# Altium footprint library 曾宪阳PCB库.PcbLib: 142 footprints (part 1 of 9)
Each footprint in its own frame and in the unit in brackets; x right, y up, seen from the top. Pads: shape width x height; smd on the part's side, far side on the other; paste and mask are expansions set on the pad; w line width, h text height; cw(c..) or ccw(c..) is an arc to the next point about the centre after c.
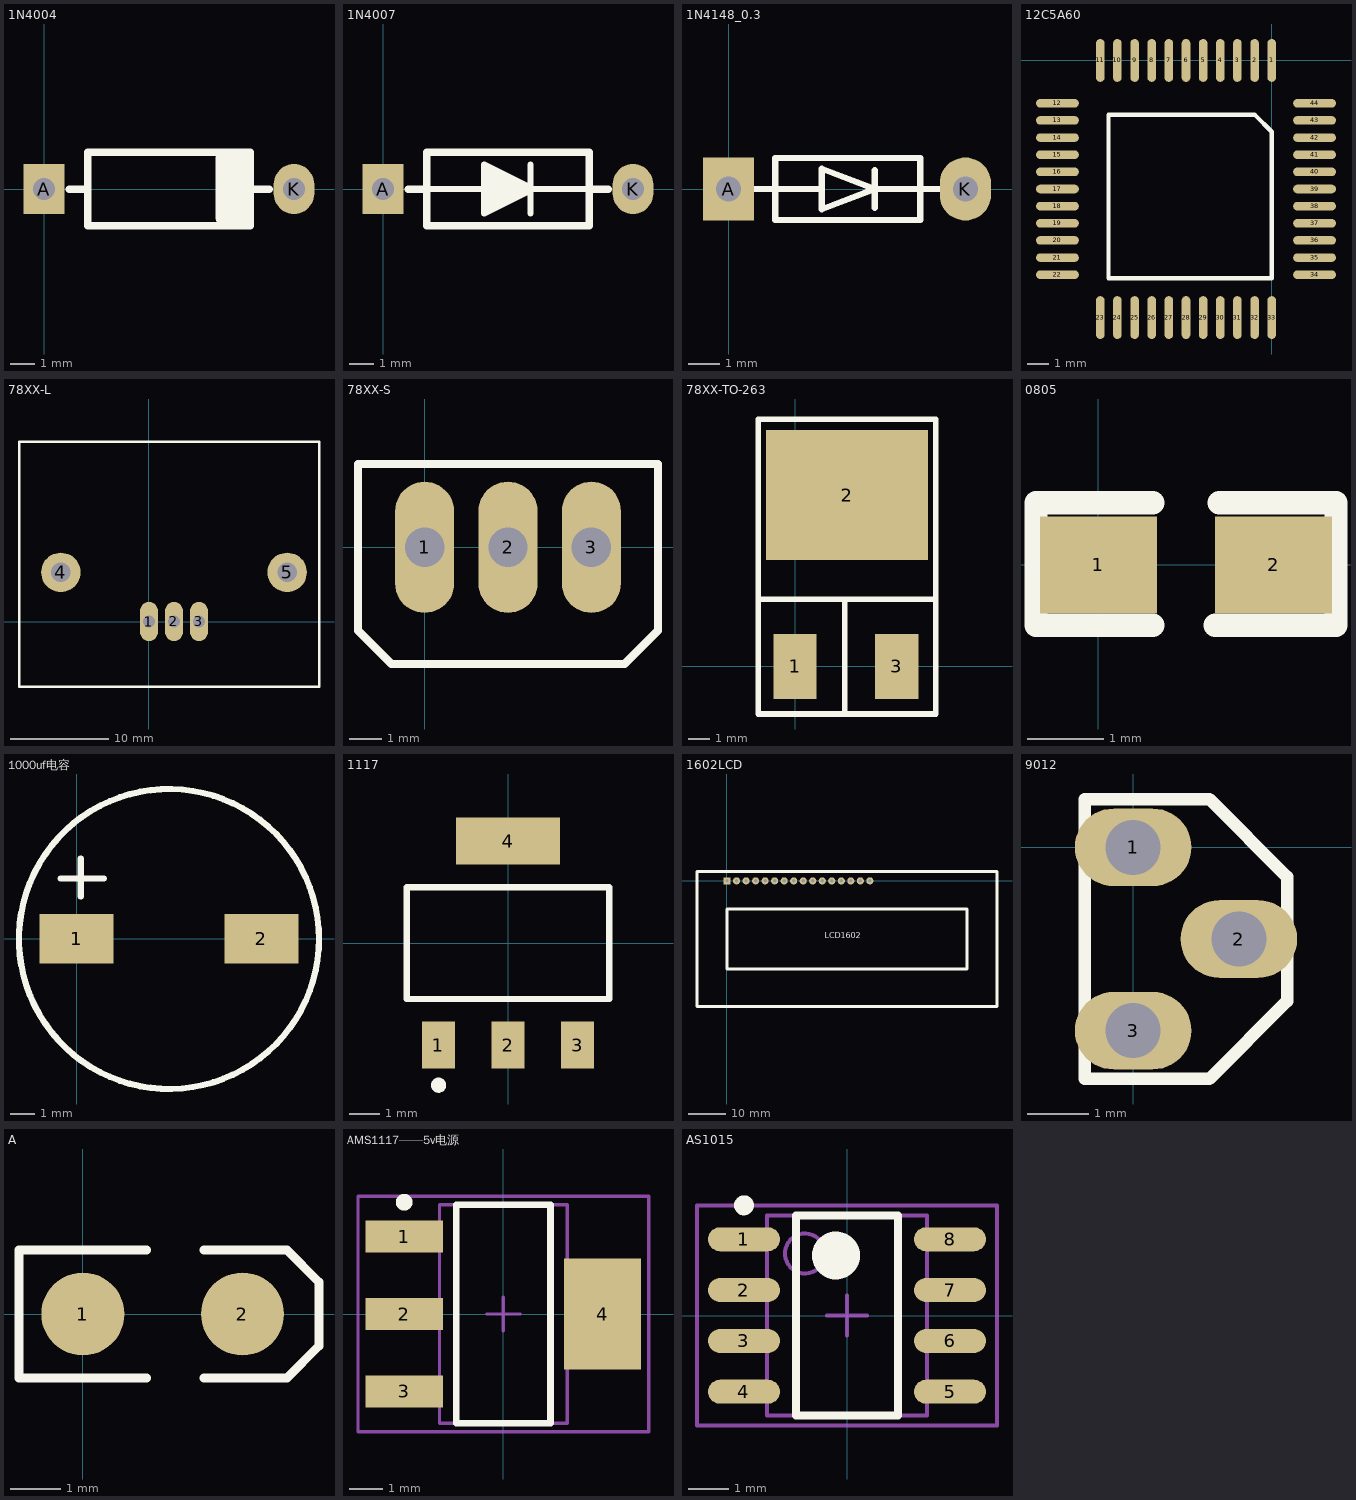
[diagram p0: the footprints below, top view; thin cyan lines are the x and y axes]

## 1N4004 [mil]
pads (2):
  rect 65x80 hole 35.43: A(0,0)
  oval 65x80 hole 35.43: K(400,0)
Top Overlay:
  lines w12: 40,0 70,0 ; 330,0 360,0 ; 70,-59.06 70,59.06 330,59.06 330,-59.06 70,-59.06
  lines w30: 289.37,-45 289.37,49 ; 314.96,-45 314.96,49.21

## 1N4007 [mil]
pads (2):
  rect 65x80 hole 35.43: A(0,0)
  oval 65x80 hole 35.43: K(400,0)
Top Overlay:
  lines w9.84: 59.06,0 161.42,0 ; 169.29,-31.5 169.29,31.5 ; 177.17,-27.56 177.17,27.56 ; 185.04,-23.62 185.04,23.62 ; 192.91,-19.68 192.91,23.62 ; 200.79,-15.75 200.79,15.75 ; 208.66,-7.87 208.66,11.81 ; 216.54,-7.87 216.54,7.87 ; 224.41,-3.94 224.41,7.87 ; 236.22,-39.37 236.22,39.37 ; 334.65,0 240.16,0 ; 240.16,0 161.42,39.37 161.42,-39.37 240.16,0
  lines w12: 40,0 70,0 ; 330,0 360,0 ; 70,-59.06 70,59.06 330,59.06 330,-59.06 70,-59.06

## 1N4148_0.3 [mil]
pads (2):
  rect 65x80 hole 31.5: A(0,0)
  oval 65x80 hole 31.5: K(300,0)
Top Overlay:
  lines w7.87: 25,0 55.12,0 118.11,0 ; 185.04,-23.62 185.04,0 ; 185.04,23.62 185.04,0 ; 242.13,-39.37 240.16,-39.37 59.06,-39.37 59.06,39.37 242.13,39.37 ; 242.68,-39.37 242.68,0 ; 242.68,39.37 242.68,0 ; 248.03,0 185.04,0 ; 275,0 242.68,0 ; 118.11,0 118.11,-25.59 185.04,0 ; 118.11,0 118.11,25.59 185.04,0

## 12C5A60 [mm]
pads (44):
  oval 0.4x2 smd: 1(0,0) 2(-0.8,0) 3(-1.6,0) 4(-2.4,0) 5(-3.2,0) 6(-4,0) 7(-4.8,0) 8(-5.6,0) 9(-6.4,0) 10(-7.2,0) 11(-8,0) 23(-8,-12) 24(-7.2,-12) 25(-6.4,-12) 26(-5.6,-12) 27(-4.8,-12) 28(-4,-12) 29(-3.2,-12) 30(-2.4,-12) 31(-1.6,-12) 32(-0.8,-12) 33(0,-12)
  oval 2x0.4 smd: 12(-10,-2) 13(-10,-2.8) 14(-10,-3.6) 15(-10,-4.4) 16(-10,-5.2) 17(-10,-6) 18(-10,-6.8) 19(-10,-7.6) 20(-10,-8.4) 21(-10,-9.2) 22(-10,-10) 34(2,-10) 35(2,-9.2) 36(2,-8.4) 37(2,-7.6) 38(2,-6.8) 39(2,-6) 40(2,-5.2) 41(2,-4.4) 42(2,-3.6) 43(2,-2.8) 44(2,-2)
Top Overlay:
  lines w0.2: -7.62,-10.16 0,-10.16 0,-3.327 -0.787,-2.54 -7.62,-2.54 -7.62,-10.16

## 78XX-L [mm]
pads (5):
  oval 1.8x4 hole 1.2: 1(0,0) 2(2.54,0.003) 3(5.08,0.003)
  round 4 hole 2: 4(-8.959,5) 5(14.041,5)
Top Overlay:
  lines w0.254: -13.207,-6.604 -13.207,18.288 17.273,18.288 17.273,-6.604 -13.207,-6.604

## 78XX-S [mm]
pads (3):
  oval 1.8x4 hole 1.2: 1(0,0) 2(2.54,0.003) 3(5.08,0.003)
Top Overlay:
  lines w0.254: -2.032,-2.54 -1.016,-3.556 6.096,-3.556 7.112,-2.54 7.112,2.54 -2.032,2.54 -2.032,-2.54

## 78XX-TO-263 [mm]
pads (3):
  rect 2x3 smd: 1(0,0) 3(4.7,0)
  rect 7.5x6 smd: 2(2.4,7.9)
Top Overlay:
  lines w0.254: -1.7,3.1 2.3,3.1 ; 2.3,-2.2 2.3,3.1 ; 6.5,3.1 2.3,3.1 ; -1.7,-2.2 6.5,-2.2 6.5,11.4 -1.7,11.4 -1.7,-2.2

## 0805 [mil]
pads (2):
  rect 60x50 smd: 1(0,0) 2(90,0)
Top Overlay:
  lines w12: 28,-31 -32,-31 -32,32 28,32 ; 60,-31 122,-31 122,32 62,32

## 1000uf电容 [mm]
pads (2):
  rect 3x2 smd: 1(0,0) 2(7.5,0)
Top Overlay:
  circle w0.254: c3.75,-0.01 r6.09
  lines w0.254: -0.65,2.45 1.11,2.45 ; 0.17,1.72 0.17,3.26

## 1117 [mm] "SOT-223/SC-73; 4 Leads; Body 6.7 x 7.3 mm, inc. leads (LxW max)"
height 1.8
pads (4):
  rect 1.1x1.55 smd: 1(-2.3,-3.375) 2(0,-3.375) 3(2.3,-3.375)
  rect 3.45x1.55 smd: 4(0,3.375)
Top Overlay:
  circle w0.25: c-2.3,-4.7 r0.125
  lines w0.2: -3.35,-1.85 -3.35,1.85 3.35,1.85 3.35,-1.85 -3.35,-1.85

## 1602LCD [mm] "LCD module 16*2 char"
pads (16):
  rect 1.905x1.905 hole 0.9: 1(0,0)
  round 1.905 hole 0.9: 2(2.54,0) 3(5.08,0) 4(7.62,0) 5(10.16,0) 6(12.7,0) 7(15.24,0) 8(17.78,0) 9(20.32,0) 10(22.86,0) 11(25.4,0) 12(27.94,0) 13(30.48,0) 14(33.02,0) 15(35.56,0) 16(38.1,0)
Top Overlay:
  lines w0.762: -8,-33.5 -8,2.5 72,2.5 72,-33.5 -8,-33.5 ; 0,-23.5 0,-7.5 64,-7.5 64,-23.5 0,-23.5
  text "LCD1602" at 26.036,-15.28 h1.52

## 9012 [mil]
pads (3):
  oval 75x50 hole 35.43: 1(0,0) 2(68,-59) 3(0,-118)
Top Overlay:
  lines w8: -31,-149 49,-149 99,-99 99,-19 49,31 -31,31 -31,-149

## A [mil]
pads (2):
  round 65 smd: 1(0,0) 2(125,0)
Top Overlay:
  lines w7: 50,-50 -50,-50 -50,50 50,50 ; 95,-50 160,-50 185,-25 185,25 160,50 95,50

## AMS1117——5v电源 [mm] "SOT223, 4-Leads, Body 6.5x7.3mm (max), Pitch 2.30mm, IPC Medium Density"
height 1.8
pads (4):
  rect 2.3x0.95 smd: 1(-2.95,2.3) 2(-2.95,0) 3(-2.95,-2.3)
  rect 2.3x3.3 smd: 4(2.95,0)
Top Overlay:
  circle w0.25: c-2.95,3.325 r0.125
  lines w0.2: -1.4,-3.25 -1.4,3.25 1.4,3.25 1.4,-3.25 -1.4,-3.25
Mechanical 13:
  lines w0.1: -1.9,-3.25 -1.9,3.25 1.9,3.25 1.9,-3.25 -1.9,-3.25
Mechanical 15:
  lines w0.1: -0.5,0 0.5,0 ; 0,-0.5 0,0.5 ; -4.325,-3.5 -4.325,3.5 4.325,3.5 4.325,-3.5 -4.325,-3.5
3D body: height 1.8, standoff 0.02, extent -1.9,-3.25 1.9,3.25

## AS1015 [mm] "SOIC, 8-Leads, Body 5.0x4.0mm (max), Pitch 1.27mm, IPC Medium Density"
height 1.75
pads (8):
  oval 1.8x0.6 smd: 1(-2.575,1.905) 2(-2.575,0.635) 3(-2.575,-0.635) 4(-2.575,-1.905) 5(2.575,-1.905) 6(2.575,-0.635) 7(2.575,0.635) 8(2.575,1.905)
Top Overlay:
  circle w0.6: c-0.275,1.5 r0.3
  circle w0.25: c-2.575,2.755 r0.125
  lines w0.2: -1.275,-2.5 1.275,-2.5 1.275,2.5 -1.275,2.5 -1.275,-2.5
Mechanical 13:
  circle w0.1: c-1.05,1.55 r0.5
  lines w0.1: -2,-2.5 2,-2.5 2,2.5 -2,2.5 -2,-2.5
Mechanical 15:
  lines w0.1: -0.5,0 0.5,0 ; 0,-0.5 0,0.5 ; -3.75,-2.75 3.75,-2.75 3.75,2.75 -3.75,2.75 -3.75,-2.75
3D body: height 1.75, standoff 0.1, extent -2,-2.5 2,2.5

## ASM1117——5v [mil]